# Altium schematic symbol library 74LVC1G139.SchLib: 1 symbol
Pins are listed as number, name and electrical type; pins without a type are passive.

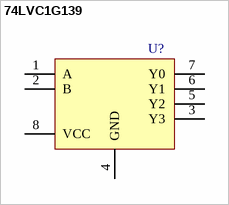
[diagram p0: symbol 74LVC1G139]

## 74LVC1G139
designator U?
pins: 1 A, 2 B, 3 Y3, 4 GND, 5 Y2, 6 Y1, 7 Y0, 8 VCC